# Altium schematic symbol library Connector-DC_PORT.SchLib: 1 symbol
Pins are listed as number, name and electrical type; pins without a type are passive.

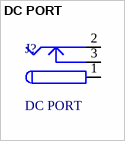
[diagram p0: symbol DC PORT]

## DC PORT
designator J?
Published: 17-Dec-2003; DatasheetDocument: 09-May-2002; Publisher: Altium Limited; ComponentLink1Description: Manufacturer Link; ComponentLink1URL: http://domino.kycon.com/internet/Products.html
footprint DC-002 (DC-002,3.5-1.1mm)
footprint DC-002-D (DC-002,3.5-1.1mm)
footprint DC-005
footprint DC-012
footprint DC-022
footprint PJ-010AH
pins: 1 (power), 2 (power), 3 (power)